# Altium schematic symbol library usb_ttl_schematic_library.SchLib: 9 symbols
Pins are listed as number, name and electrical type; pins without a type are passive.

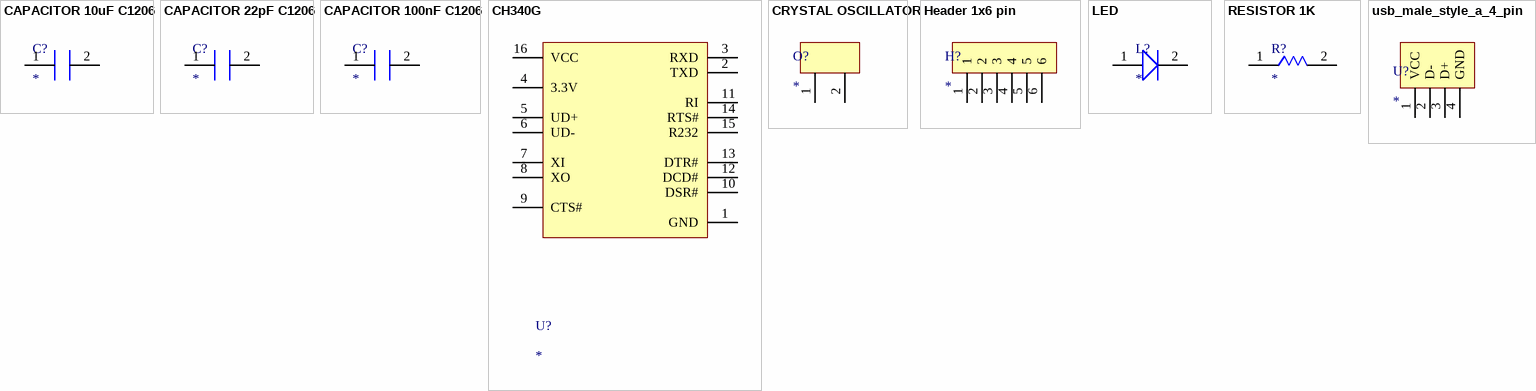
[diagram p0: symbols CAPACITOR 10uF C1206 to usb_male_style_a_4_pin]

## CAPACITOR 10uF C1206
designator C?
CAP 10 uF C1206
footprint CAPACITOR C1206
pins: 1, 2

## CAPACITOR 22pF C1206
designator C?
CAP 22pF C1206
footprint CAPACITOR C1206
pins: 1, 2

## CAPACITOR 100nF C1206
designator C?
CAP 100nF C1206
footprint CAPACITOR C1206
pins: 1, 2

## CH340G
designator U?
CH320G ,USB_TO_TTL CONVERTER
footprint CH340G
pins: 1 GND, 2 TXD, 3 RXD, 4 3.3V, 5 UD+, 6 UD-, 7 XI, 8 XO, 9 CTS#, 10 DSR#, 11 RI, 12 DCD#, 13 DTR#, 14 RTS#, 15 R232, 16 VCC

## CRYSTAL OSCILLATOR
designator O?
HC49 ,CRYSTAL OSCILLATOR 12MHz
footprint CRYSTAL OSC.
pins: 1  , 2  

## Header 1x6 pin
designator H?
header 1x6 pim ,2.54 pin gap
footprint header 1x6
pins: 1, 2, 3, 4, 5, 6

## LED
designator L?
LED
footprint led
pins: 1  , 2  

## RESISTOR 1K
designator R?
RESISTOR 1K
footprint RESISTOR 1K
pins: 1  , 2  

## usb_male_style_a_4_pin
designator U?
USB 4 PIN ,STYLE A,MALE
footprint usb_style a_male 4_contact
pins: 1 VCC, 2 D-, 3 D+, 4 GND